# Altium schematic symbol library TQMP2020_pins_screwed.SchLib: 1 symbol
Pins are listed as number, name and electrical type; pins without a type are passive.

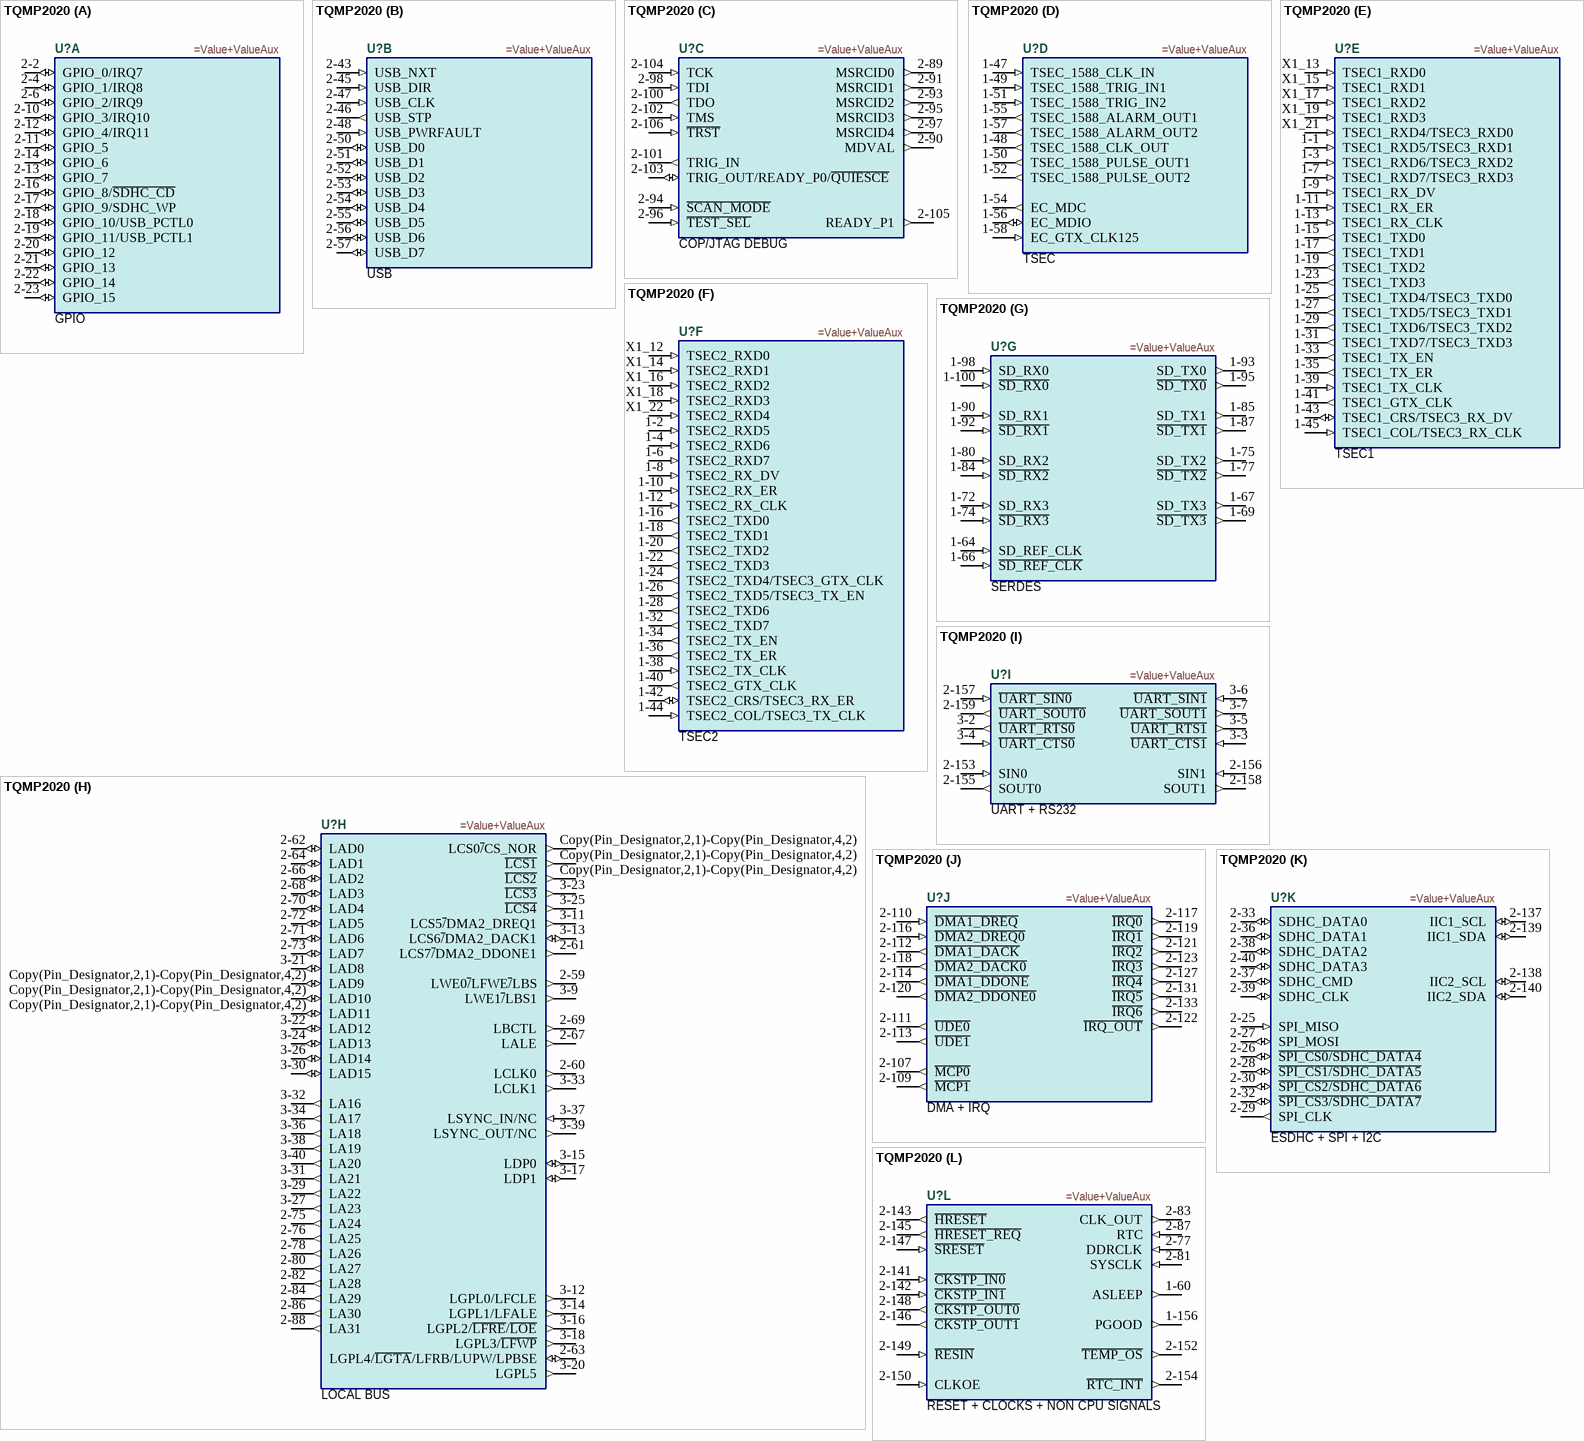
[diagram p0: symbol TQMP2020]

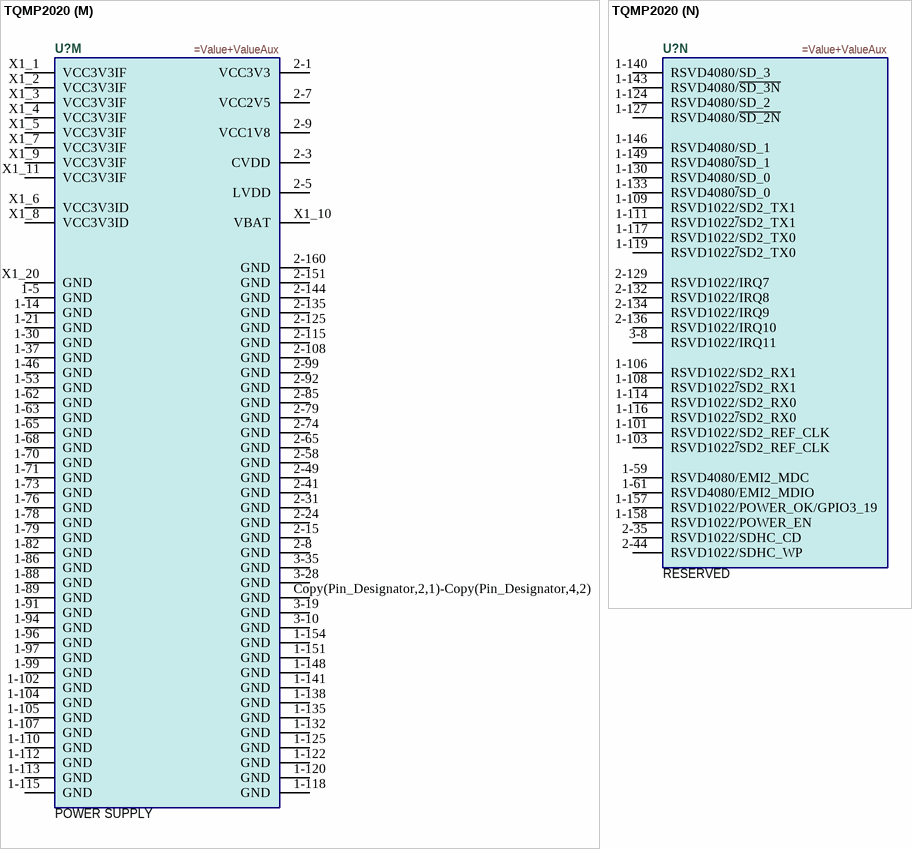
[diagram p1: symbol TQMP2020]

## TQMP2020
designator U?
=Description
part A pins: 2-2 GPIO_0/IRQ7 (io), 2-4 GPIO_1/IRQ8 (io), 2-6 GPIO_2/IRQ9 (io), 2-10 GPIO_3/IRQ10 (io), 2-11 GPIO_5 (io), 2-12 GPIO_4/IRQ11 (io), 2-13 GPIO_7 (io), 2-14 GPIO_6 (io), 2-16 GPIO_8/~{SDHC_CD} (io), 2-17 GPIO_9/SDHC_WP (io), 2-18 GPIO_10/USB_PCTL0 (io), 2-19 GPIO_11/USB_PCTL1 (io), 2-20 GPIO_12 (io), 2-21 GPIO_13 (io), 2-22 GPIO_14 (io), 2-23 GPIO_15 (io)
part B pins: 2-43 USB_NXT (in), 2-45 USB_DIR (in), 2-46 USB_STP (out), 2-47 USB_CLK (in), 2-48 USB_PWRFAULT (in), 2-50 USB_D0 (io), 2-51 USB_D1 (io), 2-52 USB_D2 (io), 2-53 USB_D3 (io), 2-54 USB_D4 (io), 2-55 USB_D5 (io), 2-56 USB_D6 (io), 2-57 USB_D7 (io)
part C pins: 2-89 MSRCID0 (out), 2-90 MDVAL (out), 2-91 MSRCID1 (out), 2-93 MSRCID2 (out), 2-94 ~{SCAN_MODE} (in), 2-95 MSRCID3 (out), 2-96 ~{TEST_SEL} (in), 2-97 MSRCID4 (out), 2-98 TDI (in), 2-100 TDO (out), 2-101 TRIG_IN (out), 2-102 TMS (in), 2-103 TRIG_OUT/READY_P0/~{QUIESCE} (io), 2-104 TCK (in), 2-105 READY_P1 (out), 2-106 ~{TRST} (in)
part D pins: 1-47 TSEC_1588_CLK_IN (in), 1-48 TSEC_1588_CLK_OUT (out), 1-49 TSEC_1588_TRIG_IN1 (in), 1-50 TSEC_1588_PULSE_OUT1 (out), 1-51 TSEC_1588_TRIG_IN2 (in), 1-52 TSEC_1588_PULSE_OUT2 (out), 1-54 EC_MDC (out), 1-55 TSEC_1588_ALARM_OUT1 (out), 1-56 EC_MDIO (io), 1-57 TSEC_1588_ALARM_OUT2 (out), 1-58 EC_GTX_CLK125 (in)
part E pins: 1-1 TSEC1_RXD5/TSEC3_RXD1 (in), 1-3 TSEC1_RXD6/TSEC3_RXD2 (in), 1-7 TSEC1_RXD7/TSEC3_RXD3 (in), 1-9 TSEC1_RX_DV (in), 1-11 TSEC1_RX_ER (in), 1-13 TSEC1_RX_CLK (in), 1-15 TSEC1_TXD0 (out), 1-17 TSEC1_TXD1 (out), 1-19 TSEC1_TXD2 (out), 1-23 TSEC1_TXD3 (out), 1-25 TSEC1_TXD4/TSEC3_TXD0 (out), 1-27 TSEC1_TXD5/TSEC3_TXD1 (out), 1-29 TSEC1_TXD6/TSEC3_TXD2 (out), 1-31 TSEC1_TXD7/TSEC3_TXD3 (out), 1-33 TSEC1_TX_EN (out), 1-35 TSEC1_TX_ER (out), 1-39 TSEC1_TX_CLK (in), 1-41 TSEC1_GTX_CLK (out), 1-43 TSEC1_CRS/TSEC3_RX_DV (io), 1-45 TSEC1_COL/TSEC3_RX_CLK (in), X1_13 TSEC1_RXD0 (in), X1_15 TSEC1_RXD1 (in), X1_17 TSEC1_RXD2 (in), X1_19 TSEC1_RXD3 (in), X1_21 TSEC1_RXD4/TSEC3_RXD0 (in)
part F pins: 1-2 TSEC2_RXD5 (in), 1-4 TSEC2_RXD6 (in), 1-6 TSEC2_RXD7 (in), 1-8 TSEC2_RX_DV (in), 1-10 TSEC2_RX_ER (in), 1-12 TSEC2_RX_CLK (in), 1-16 TSEC2_TXD0 (out), 1-18 TSEC2_TXD1 (out), 1-20 TSEC2_TXD2 (out), 1-22 TSEC2_TXD3 (out), 1-24 TSEC2_TXD4/TSEC3_GTX_CLK (out), 1-26 TSEC2_TXD5/TSEC3_TX_EN (out), 1-28 TSEC2_TXD6 (out), 1-32 TSEC2_TXD7 (out), 1-34 TSEC2_TX_EN (out), 1-36 TSEC2_TX_ER (out), 1-38 TSEC2_TX_CLK (in), 1-40 TSEC2_GTX_CLK (out), 1-42 TSEC2_CRS/TSEC3_RX_ER (io), 1-44 TSEC2_COL/TSEC3_TX_CLK (in), X1_12 TSEC2_RXD0 (in), X1_14 TSEC2_RXD1 (in), X1_16 TSEC2_RXD2 (in), X1_18 TSEC2_RXD3 (in), X1_22 TSEC2_RXD4 (in)
part G pins: 1-64 SD_REF_CLK (in), 1-66 ~{SD_REF_CLK} (in), 1-67 SD_TX3 (out), 1-69 ~{SD_TX3} (out), 1-72 SD_RX3 (in), 1-74 ~{SD_RX3} (in), 1-75 SD_TX2 (out), 1-77 ~{SD_TX2} (out), 1-80 SD_RX2 (in), 1-84 ~{SD_RX2} (in), 1-85 SD_TX1 (out), 1-87 ~{SD_TX1} (out), 1-90 SD_RX1 (in), 1-92 ~{SD_RX1} (in), 1-93 SD_TX0 (out), 1-95 ~{SD_TX0} (out), 1-98 SD_RX0 (in), 1-100 ~{SD_RX0} (in)
part H pins: 2-59 LWE0~{/}LFWE~{/}LBS (out), 2-60 LCLK0 (out), 2-61 LCS7~{/}DMA2_DDONE1 (out), 2-62 LAD0 (io), 2-63 LGPL4/~{LGTA}/LFRB/LUPW/LPBSE (io), 2-64 LAD1 (io), 2-66 LAD2 (io), 2-67 LALE (out), 2-68 LAD3 (io), 2-69 LBCTL (out), 2-70 LAD4 (io), 2-71 LAD6 (io), 2-72 LAD5 (io), 2-73 LAD7 (io), 2-75 LA24 (out), 2-76 LA25 (out), 2-78 LA26 (out), 2-80 LA27 (out), 2-82 LA28 (out), 2-84 LA29 (out), 2-86 LA30 (out), 2-88 LA31 (out), 3-9 LWE1~{/}LBS1 (out), 3-11 LCS5~{/}DMA2_DREQ1 (out), 3-12 LGPL0/LFCLE (out), 3-13 LCS6~{/}DMA2_DACK1 (io), 3-14 LGPL1/LFALE (out), 3-15 LDP0 (io), 3-16 LGPL2/~{LFRE}/~{LOE} (out), 3-17 LDP1 (io), 3-18 LGPL3/~{LFWP} (out), 3-20 LGPL5 (out), 3-21 LAD8 (io), 3-22 LAD12 (io), 3-23 ~{LCS3} (out), 3-24 LAD13 (io), 3-25 ~{LCS4} (out), 3-26 LAD14 (io), 3-27 LA23 (out), 3-29 LA22 (out), 3-30 LAD15 (io), 3-31 LA21 (out), 3-32 LA16 (out), 3-33 LCLK1 (out), 3-34 LA17 (out), 3-36 LA18 (out), 3-37 LSYNC_IN/NC (in), 3-38 LA19 (out), 3-39 LSYNC_OUT/NC (out), 3-40 LA20 (out), Copy(Pin_Designator,2,1)-Copy(Pin_Designator,4,2) LAD9 (io), Copy(Pin_Designator,2,1)-Copy(Pin_Designator,4,2) LAD10 (io), Copy(Pin_Designator,2,1)-Copy(Pin_Designator,4,2) LAD11 (io), Copy(Pin_Designator,2,1)-Copy(Pin_Designator,4,2) ~{LCS2} (out), Copy(Pin_Designator,2,1)-Copy(Pin_Designator,4,2) ~{LCS1} (out), Copy(Pin_Designator,2,1)-Copy(Pin_Designator,4,2) LCS0~{/}CS_NOR (out)
part I pins: 2-153 SIN0 (in), 2-155 SOUT0 (out), 2-156 SIN1 (in), 2-157 ~{UART_SIN0} (in), 2-158 SOUT1 (out), 2-159 ~{UART_SOUT0} (out), 3-2 ~{UART_RTS0} (out), 3-3 ~{UART_CTS1} (in), 3-4 ~{UART_CTS0} (in), 3-5 ~{UART_RTS1} (out), 3-6 ~{UART_SIN1} (in), 3-7 ~{UART_SOUT1} (out)
part J pins: 2-107 ~{MCP0} (out), 2-109 ~{MCP1} (out), 2-110 ~{DMA1_DREQ} (in), 2-111 ~{UDE0} (out), 2-112 ~{DMA1_DACK} (out), 2-113 ~{UDE1} (out), 2-114 ~{DMA1_DDONE} (out), 2-116 ~{DMA2_DREQ0} (in), 2-117 ~{IRQ0} (out), 2-118 ~{DMA2_DACK0} (out), 2-119 ~{IRQ1} (out), 2-120 ~{DMA2_DDONE0} (out), 2-121 ~{IRQ2} (out), 2-122 ~{IRQ_OUT} (out), 2-123 ~{IRQ3} (out), 2-127 ~{IRQ4} (out), 2-131 ~{IRQ5} (out), 2-133 ~{IRQ6} (out)
part K pins: 2-25 SPI_MISO (in), 2-26 ~{SPI_CS0/SDHC_DATA4} (io), 2-27 SPI_MOSI (io), 2-28 ~{SPI_CS1/SDHC_DATA5} (io), 2-29 SPI_CLK (out), 2-30 ~{SPI_CS2/SDHC_DATA6} (io), 2-32 ~{SPI_CS3/SDHC_DATA7} (io), 2-33 SDHC_DATA0 (io), 2-36 SDHC_DATA1 (io), 2-37 SDHC_CMD (io), 2-38 SDHC_DATA2 (io), 2-39 SDHC_CLK (io), 2-40 SDHC_DATA3 (io), 2-137 IIC1_SCL (io), 2-138 IIC2_SCL (io), 2-139 IIC1_SDA (io), 2-140 IIC2_SDA (io)
part L pins: 1-60 ASLEEP (out), 1-156 PGOOD (out), 2-77 DDRCLK (in), 2-81 SYSCLK (in), 2-83 CLK_OUT (out), 2-87 RTC (in), 2-141 ~{CKSTP_IN0} (in), 2-142 ~{CKSTP_IN1} (in), 2-143 ~{HRESET} (out), 2-145 ~{HRESET_REQ} (out), 2-146 ~{CKSTP_OUT1} (out), 2-147 ~{SRESET} (in), 2-148 ~{CKSTP_OUT0} (out), 2-149 ~{RESIN} (in), 2-150 CLKOE (in), 2-152 ~{TEMP_OS} (out), 2-154 ~{RTC_INT} (out)
part M pins: 1-5 GND (power), 1-14 GND (power), 1-21 GND (power), 1-30 GND (power), 1-37 GND (power), 1-46 GND (power), 1-53 GND (power), 1-62 GND (power), 1-63 GND (power), 1-65 GND (power), 1-68 GND (power), 1-70 GND (power), 1-71 GND (power), 1-73 GND (power), 1-76 GND (power), 1-78 GND (power), 1-79 GND (power), 1-82 GND (power), 1-86 GND (power), 1-88 GND (power), 1-89 GND (power), 1-91 GND (power), 1-94 GND (power), 1-96 GND (power), 1-97 GND (power), 1-99 GND (power), 1-102 GND (power), 1-104 GND (power), 1-105 GND (power), 1-107 GND (power), 1-110 GND (power), 1-112 GND (power), 1-113 GND (power), 1-115 GND (power), 1-118 GND (power), 1-120 GND (power), 1-122 GND (power), 1-125 GND (power), 1-132 GND (power), 1-135 GND (power), 1-138 GND (power), 1-141 GND (power), 1-148 GND (power), 1-151 GND (power), 1-154 GND (power), 2-1 VCC3V3 (power), 2-3 CVDD (power), 2-5 LVDD (power), 2-7 VCC2V5 (power), 2-8 GND (power), 2-9 VCC1V8 (power), 2-15 GND (power), 2-24 GND (power), 2-31 GND (power), 2-41 GND (power), 2-49 GND (power), 2-58 GND (power), 2-65 GND (power), 2-74 GND (power), 2-79 GND (power), 2-85 GND (power), 2-92 GND (power), 2-99 GND (power), 2-108 GND (power), 2-115 GND (power), 2-125 GND (power), 2-135 GND (power), 2-144 GND (power), 2-151 GND (power), 2-160 GND (power), 3-10 GND (power), 3-19 GND (power), 3-28 GND (power), 3-35 GND (power), Copy(Pin_Designator,2,1)-Copy(Pin_Designator,4,2) GND (power), X1_1 VCC3V3IF (power), X1_2 VCC3V3IF (power), X1_3 VCC3V3IF (power), X1_4 VCC3V3IF (power), X1_5 VCC3V3IF (power), X1_6 VCC3V3ID (power), X1_7 VCC3V3IF (power), X1_8 VCC3V3ID (power), X1_9 VCC3V3IF (power), X1_10 VBAT (power), X1_11 VCC3V3IF (power), X1_20 GND (power)
part N pins: 1-59 RSVD4080/EMI2_MDC, 1-61 RSVD4080/EMI2_MDIO, 1-101 RSVD1022/SD2_REF_CLK, 1-103 RSVD1022~{/}SD2_REF_CLK, 1-106 RSVD1022/SD2_RX1, 1-108 RSVD1022~{/}SD2_RX1, 1-109 RSVD1022/SD2_TX1, 1-111 RSVD1022~{/}SD2_TX1, 1-114 RSVD1022/SD2_RX0, 1-116 RSVD1022~{/}SD2_RX0, 1-117 RSVD1022/SD2_TX0, 1-119 RSVD1022~{/}SD2_TX0, 1-124 RSVD4080/SD_2, 1-127 RSVD4080/~{SD_2N}, 1-130 RSVD4080/SD_0, 1-133 RSVD4080~{/}SD_0, 1-140 RSVD4080/SD_3, 1-143 RSVD4080/~{SD_3N}, 1-146 RSVD4080/SD_1, 1-149 RSVD4080~{/}SD_1, 1-157 RSVD1022/POWER_OK/GPIO3_19, 1-158 RSVD1022/POWER_EN, 2-35 RSVD1022/SDHC_CD, 2-44 RSVD1022/SDHC_WP, 2-129 RSVD1022/IRQ7, 2-132 RSVD1022/IRQ8, 2-134 RSVD1022/IRQ9, 2-136 RSVD1022/IRQ10, 3-8 RSVD1022/IRQ11
part A text: GPIO
part B text: USB
part C text: COP/JTAG DEBUG
part D text: TSEC
part E text: TSEC1
part F text: TSEC2
part G text: SERDES
part H text: LOCAL BUS
part I text: UART + RS232
part J text: DMA + IRQ
part K text: ESDHC + SPI + I2C
part L text: RESET + CLOCKS + NON CPU SIGNALS
part M text: POWER SUPPLY
part N text: RESERVED